# Altium footprint library clone_PCB_libary.PcbLib: 26 footprints (part 2 of 2)
Each footprint in its own frame and in the unit in brackets; x right, y up, seen from the top. Pads: shape width x height; smd on the part's side, far side on the other; paste and mask are expansions set on the pad; w line width, h text height; cw(c..) or ccw(c..) is an arc to the next point about the centre after c.
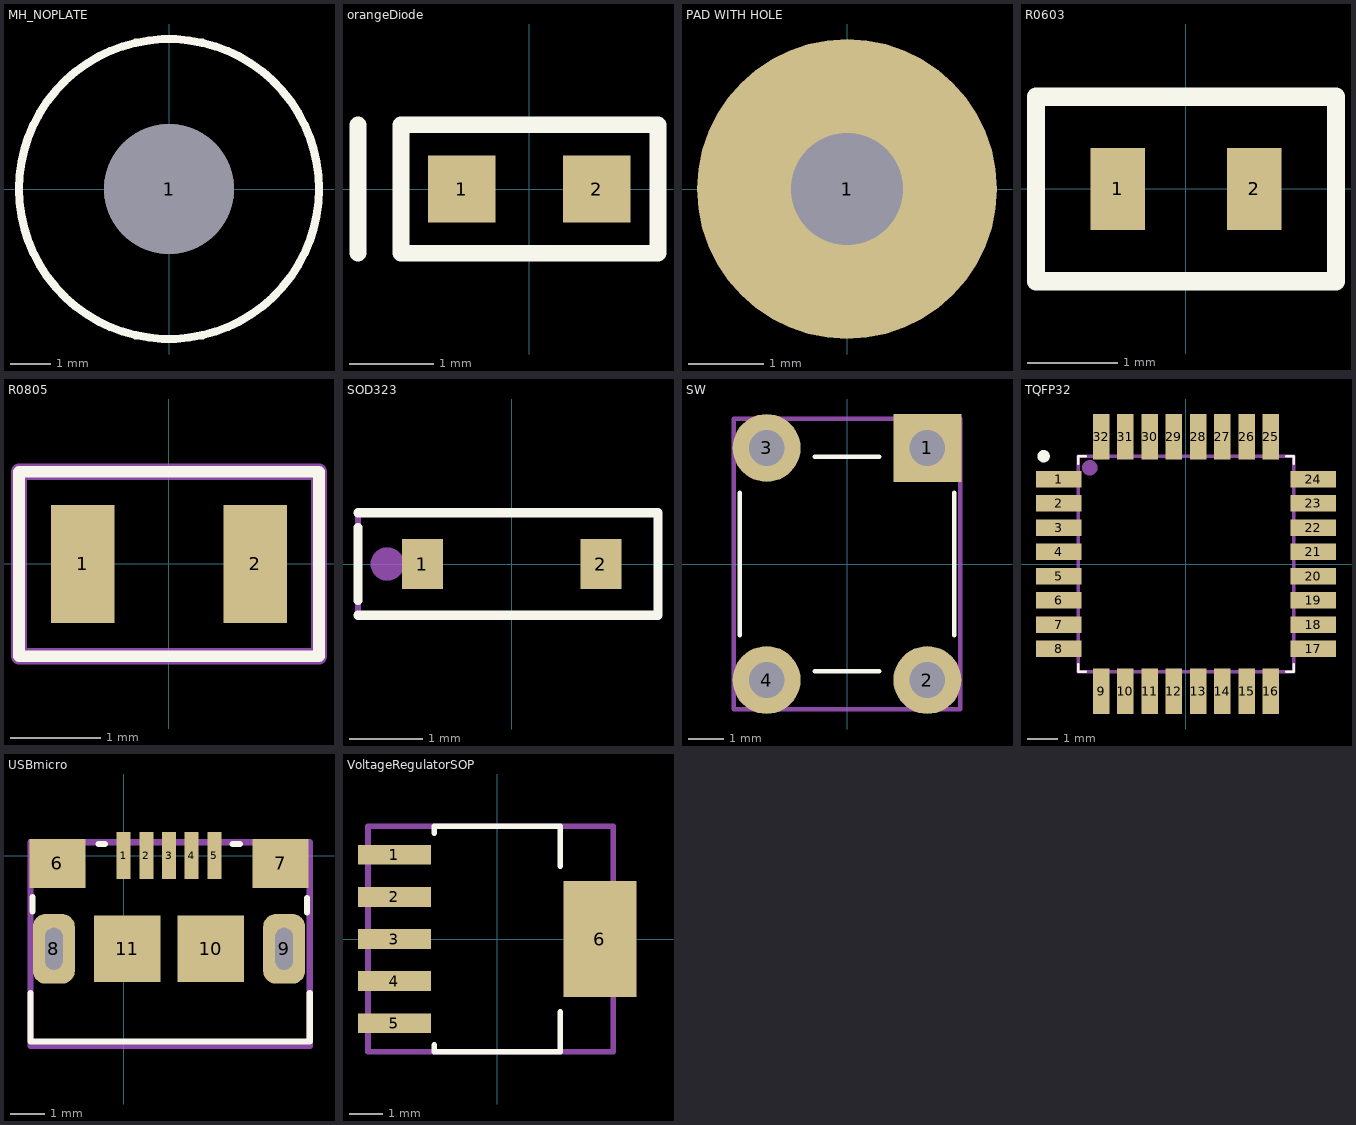
[diagram p1: the footprints below, top view; thin cyan lines are the x and y axes]

## MH_NOPLATE [mm]
pads (1):
  round 3.2 hole 3.2 unplated: 1(0,0)
Top Overlay:
  circle w0.2: c0,0 r3.7

## orangeDiode [mm]
pads (2):
  rect 0.8x0.8 smd: 1(-0.8,0) 2(0.8,0)
Top Overlay:
  lines w0.2: -2.032,-0.762 -2.032,0.762 ; -1.524,-0.762 -1.524,0.762 1.524,0.762 1.524,-0.762 -1.524,-0.762
Mechanical 2:
  lines w0.178: -2.032,-0.762 -2.032,0.762 ; -1.524,-0.762 1.524,-0.762 1.524,0.762 -1.524,0.762 -1.524,-0.762
  text ".Designator" at -1.194,-0.093 h0.25
3D body: height 0.67, standoff 0, extent -0.85,-0.419 0.85,0.381

## PAD WITH HOLE [mm]
pads (1):
  round 4 hole 1.5: 1(0,0)

## R0603 [mm]
pads (2):
  rect 0.6x0.9 smd: 1(-0.75,0) 2(0.75,0)
Top Overlay:
  lines w0.2: -1.651,-1.016 1.651,-1.016 1.651,1.016 -1.651,1.016 -1.651,-1.016
Mechanical 2:
  lines w0.178: -1.651,-1.016 -1.651,1.016 1.651,1.016 1.651,-1.016 -1.651,-1.016
  text ".Designator" at -1.17,-0.114 h0.5
3D body "CG0603MLC-05E.step": height 0.58, standoff 0.02, extent -0.8,-0.4 0.8,0.4

## R0805 [mm]
pads (2):
  rect 0.7x1.3 smd: 1(-0.95,0) 2(0.95,0)
Top Overlay:
  lines w0.127: -1.651,-1.016 1.651,-1.016 1.651,1.016 -1.651,1.016 -1.651,-1.016
Mechanical 2:
  lines w0.178: -1.651,-1.016 -1.651,1.016 1.651,1.016 1.651,-1.016 -1.651,-1.016
  text ".Designator" at -0.966,-0.137 h0.2
3D body "RC0805N_YAG.step": height 0.71, standoff 0, extent -1.003,-0.597 1.003,0.597

## SOD323 [mil]
pads (2):
  rect 22x27 smd: 1(-48,0) 2(48,0)
Top Overlay:
  lines w5: -82.68,-27.56 78.74,-27.56 78.74,27.56 -82.68,27.56 ; -82.68,-19.68 -82.68,19.68
Mechanical 2:
  circle w10: c-66.93,0 r3.94
  lines w3: -82.68,-27.56 -82.68,27.56 78.74,27.56 78.74,-27.56 -82.68,-27.56
  text ".designator" at -46.85,-4.2 h9.84
3D body "CR_SOD-323_2L_ONS.step": height 43.11, standoff 0, extent -50.99,-26.49 50.98,26.5

## SW [mm]
pads (4):
  rect 1.9x1.9 hole 1: 1(2.25,3.25)
  round 1.9 hole 1: 2(2.25,-3.25) 3(-2.25,3.25) 4(-2.25,-3.25)
Top Overlay:
  lines w0.127: -3,-2 -3,2 ; -0.9,-3 0.9,-3 ; -0.9,3 0.9,3 ; 3,-2 3,2
Mechanical 2:
  circle w0.4: c2.286,3.302 r0.2
  lines w0.127: -3.175,-4.064 -3.175,4.064 3.175,4.064 3.175,-4.064 -3.175,-4.064
  text ".Designator" at -2.186,0.013 h0.5
3D body "1825910-6.step": height 5.02, standoff -3.5, extent -3,-3.899 2.99,3.899

## TQFP32 [mm]
pads (32):
  rect 1.5x0.55 smd mask+0.06: 1(-4.2,2.8) 2(-4.2,2) 3(-4.2,1.2) 4(-4.2,0.4) 5(-4.2,-0.4) 6(-4.2,-1.2) 7(-4.2,-2) 8(-4.2,-2.8) 17(4.2,-2.8) 18(4.2,-2) 19(4.2,-1.2) 20(4.2,-0.4) 21(4.2,0.4) 22(4.2,1.2) 23(4.2,2) 24(4.2,2.8)
  rect 0.55x1.5 smd mask+0.06: 9(-2.8,-4.2) 10(-2,-4.2) 11(-1.2,-4.2) 12(-0.4,-4.2) 13(0.4,-4.2) 14(1.2,-4.2) 15(2,-4.2) 16(2.8,-4.2) 25(2.8,4.2) 26(2,4.2) 27(1.2,4.2) 28(0.4,4.2) 29(-0.4,4.2) 30(-1.2,4.2) 31(-2,4.2) 32(-2.8,4.2)
Top Overlay:
  circle w0.254: c-4.699,3.556 r0.076
  lines w0.076: -3.556,-3.302 -3.556,-3.556 -3.302,-3.556 ; -3.556,3.302 -3.556,3.556 -3.302,3.556 ; 3.302,-3.556 3.556,-3.556 3.556,-3.302 ; 3.302,3.556 3.556,3.556 3.556,3.302
Mechanical 2:
  circle w0.254: c-3.175,3.175 r0.127
  lines w0.127: -3.556,-3.556 3.556,-3.556 3.556,3.556 -3.556,3.556 -3.556,-3.556
  text ".Designator" at -2.54,1.185 h0.51
3D body "TQFP-32.STEP": height 1.1, standoff 0, extent -4.5,-4.5 4.5,4.5

## USBmicro [mm]
pads (11):
  rect 0.4x1.35 smd mask+0.05: 1(0,0) 2(0.65,0) 3(1.3,0) 4(1.95,0) 5(2.6,0)
  rect 1.6x1.4 smd: 6(-1.9,-0.225) 7(4.5,-0.225)
  rrect60% 1.2x2 hole 0.5 slot 1.2 at 90 deg: 8(-2,-2.675) 9(4.6,-2.675)
  rect 1.9x1.9 smd: 10(2.5,-2.675) 11(0.1,-2.675)
Top Overlay:
  lines w0.178: -2.667,-3.937 -2.667,-5.334 5.334,-5.334 5.334,-3.937 ; -2.616,-1.6 -2.616,-1.194 ; -0.711,0.33 -0.533,0.33 ; 3.124,0.33 3.327,0.33 ; 5.258,-1.626 5.258,-1.219
Mechanical 2:
  lines w0.178: -2.667,-5.461 -2.667,0.381 5.334,0.381 5.334,-5.461 -2.667,-5.461
  text ".Designator" at -1.17,-2.273 h0.5
3D body "USBmicro.step": height 2.85, standoff -0.75, extent -2.609,-5.376 5.251,0.334

## VoltageRegulatorSOP [mm]
pads (6):
  rect 2.2x0.6 smd: 1(-3.1,2.54) 2(-3.1,1.27) 3(-3.1,0) 4(-3.1,-1.27) 5(-3.1,-2.54)
  rect 2.2x3.5 smd: 6(3.1,0)
Top Overlay:
  lines w0.178: -1.9,-3.2 -1.9,-3.4 1.9,-3.4 1.9,-2.2 ; -1.9,3.2 -1.9,3.4 1.9,3.4 1.9,2.2
Mechanical 2:
  circle w0.254: c-3.226,2.591 r0.1
  lines w0.178: -3.9,-3.4 3.5,-3.4 3.5,3.4 -3.7,3.4 -3.9,3.4 -3.9,-3.4
  text ".Designator" at -2.364,-0.165 h0.5
3D body "TL1963A-33DCQR.step": height 1.8, standoff 0, extent -3.73,-3.25 3.33,3.25